# EAGLE library part 2X23 (library headers(.1in)(samtec))
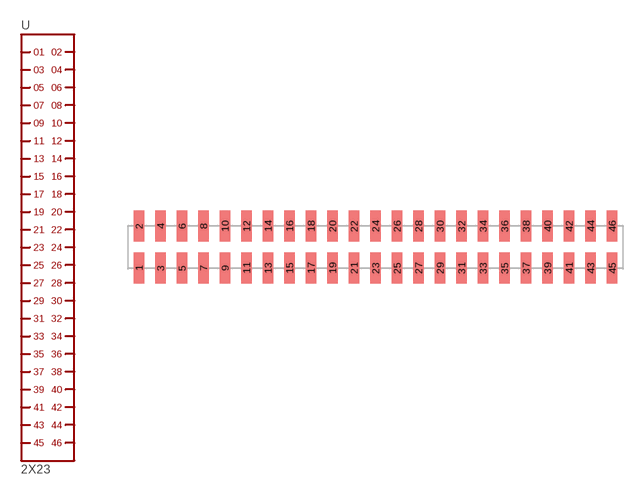
[diagram p5: symbol with the pads of TSM-123-XX-XXX-DV; footprint TSM-123-XX-XXX-DV]

Designator prefix -

## 2X23.TSM  [TSM-123-XX-XXX-DV]
1  1
2  2
3  3
4  4
5  5
6  6
7  7
8  8
9  9
10  10
11  11
12  12
13  13
14  14
15  15
16  16
17  17
18  18
19  19
20  20
21  21
22  22
23  23
24  24
25  25
26  26
27  27
28  28
29  29
30  30
31  31
32  32
33  33
34  34
35  35
36  36
37  37
38  38
39  39
40  40
41  41
42  42
43  43
44  44
45  45
46  46

## Footprint TSM-123-XX-XXX-DV (pad centres in mm)
smd 1.27 x 3.683: 1 -27.94,-2.477; 2 -27.94,2.477; 3 -25.4,-2.477; 4 -25.4,2.477; 5 -22.86,-2.477; 6 -22.86,2.477; 7 -20.32,-2.477; 8 -20.32,2.477; 9 -17.78,-2.477; 10 -17.78,2.477; 11 -15.24,-2.477; 12 -15.24,2.477; 13 -12.7,-2.477; 14 -12.7,2.477; 15 -10.16,-2.477; 16 -10.16,2.477; 17 -7.62,-2.477; 18 -7.62,2.477; 19 -5.08,-2.477; 20 -5.08,2.477; 21 -2.54,-2.477; 22 -2.54,2.477; 23 0,-2.477; 24 0,2.477; 25 2.54,-2.477; 26 2.54,2.477; 27 5.08,-2.477; 28 5.08,2.477; 29 7.62,-2.477; 30 7.62,2.477; 31 10.16,-2.477; 32 10.16,2.477; 33 12.7,-2.477; 34 12.7,2.477; 35 15.24,-2.477; 36 15.24,2.477; 37 17.78,-2.477; 38 17.78,2.477; 39 20.32,-2.477; 40 20.32,2.477; 41 22.86,-2.477; 42 22.86,2.477; 43 25.4,-2.477; 44 25.4,2.477; 45 27.94,-2.477; 46 27.94,2.477